# Altium footprint library JST PH Connectors.PcbLib: 59 footprints (part 3 of 4)
Each footprint in its own frame and in the unit in brackets; x right, y up, seen from the top. Pads: shape width x height; smd on the part's side, far side on the other; paste and mask are expansions set on the pad; w line width, h text height; cw(c..) or ccw(c..) is an arc to the next point about the centre after c.
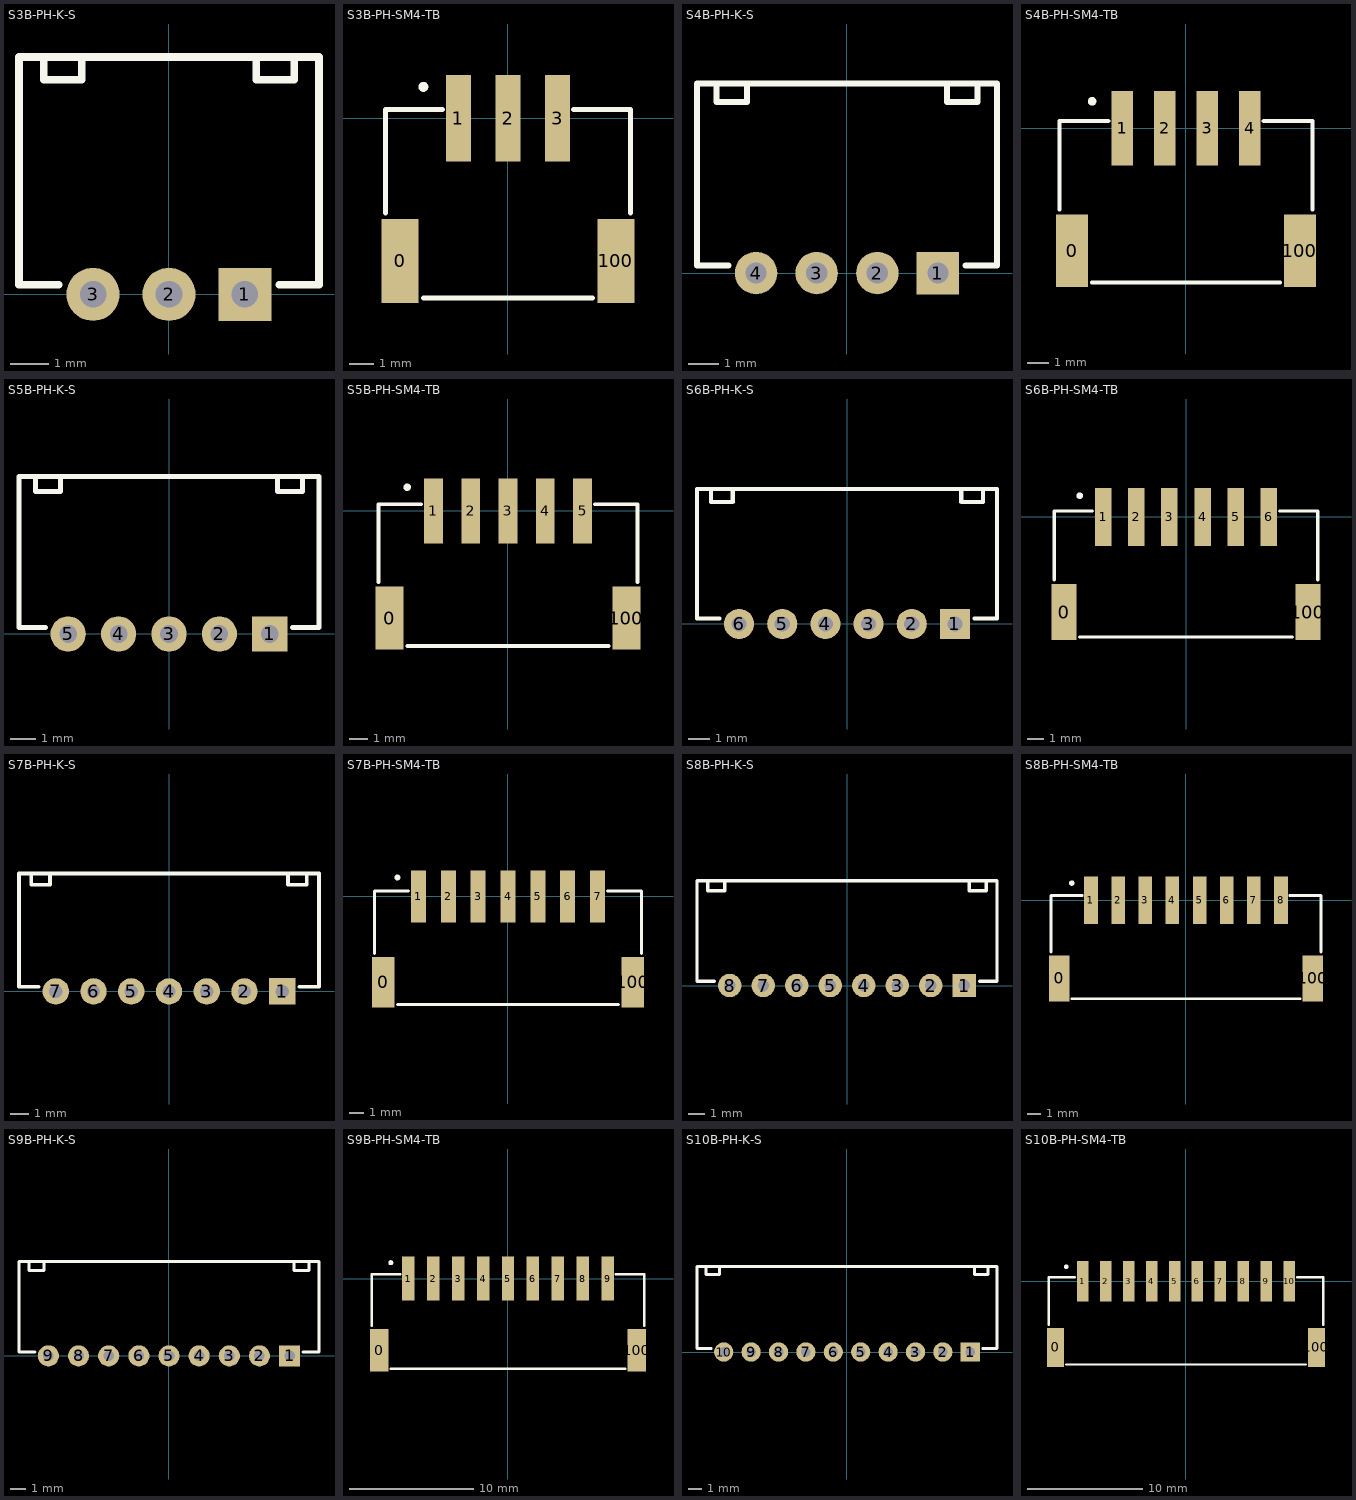
[diagram p2: the footprints below, top view; thin cyan lines are the x and y axes]

## S3B-PH-K-S [mm]
pads (3):
  rect 1.4x1.4 hole 0.7: 1(2,0)
  round 1.4 hole 0.7: 2(0,0) 3(-2,0)
Top Overlay:
  lines w0.2: -3.3,6.25 -3.3,5.65 -2.3,5.65 -2.3,6.25 ; -2.905,0.25 -3.95,0.25 -3.95,6.25 3.95,6.25 3.95,0.25 2.905,0.25 ; 2.3,6.25 2.3,5.65 3.3,5.65 3.3,6.25
3D body "S3B-PH-K-S.STEP": height 4.81, standoff -3.39, extent -3.95,-1.35 3.95,6.25

## S3B-PH-SM4-TB [mm]
height 5.5
pads (5):
  rect 1.5x3.4 smd: 0(-4.35,-5.75) 100(4.35,-5.75)
  rect 1x3.5 smd: 1(-2,0) 2(0,0) 3(2,0)
Top Overlay:
  circle w0.2: c-3.413,1.27 r0.1
  lines w0.2: -4.95,-3.81 -4.95,0.35 -2.651,0.35 ; -3.413,-7.25 3.413,-7.25 ; 2.651,0.35 4.95,0.35 4.95,-3.81
3D body "S3B-PH-SM4-TB.STEP": height 5.61, standoff 0.01, extent -4.95,-7.25 4.95,1.35

## S4B-PH-K-S [mm]
pads (4):
  rect 1.4x1.4 hole 0.7: 1(3,0)
  round 1.4 hole 0.7: 2(1,0) 3(-1,0) 4(-3,0)
Top Overlay:
  lines w0.2: -4.3,6.25 -4.3,5.65 -3.3,5.65 -3.3,6.25 ; -3.905,0.25 -4.95,0.25 -4.95,6.25 4.95,6.25 4.95,0.25 3.905,0.25 ; 3.3,6.25 3.3,5.65 4.3,5.65 4.3,6.25
3D body "S4B-PH-K-S.STEP": height 4.81, standoff -3.39, extent -4.95,-1.35 4.95,6.25

## S4B-PH-SM4-TB [mm]
height 5.5
pads (6):
  rect 1.5x3.4 smd: 0(-5.35,-5.75) 100(5.35,-5.75)
  rect 1x3.5 smd: 1(-3,0) 2(-1,0) 3(1,0) 4(3,0)
Top Overlay:
  circle w0.2: c-4.413,1.27 r0.1
  lines w0.2: -5.95,-3.81 -5.95,0.35 -3.651,0.35 ; -4.413,-7.25 4.413,-7.25 ; 3.651,0.35 5.95,0.35 5.95,-3.81
3D body "S4B-PH-SM4-TB.STEP": height 5.61, standoff 0.01, extent -5.95,-7.25 5.95,1.35

## S5B-PH-K-S [mm]
pads (5):
  rect 1.4x1.4 hole 0.7: 1(4,0)
  round 1.4 hole 0.7: 2(2,0) 3(0,0) 4(-2,0) 5(-4,0)
Top Overlay:
  lines w0.2: -5.3,6.25 -5.3,5.65 -4.3,5.65 -4.3,6.25 ; -4.905,0.25 -5.95,0.25 -5.95,6.25 5.95,6.25 5.95,0.25 4.905,0.25 ; 4.3,6.25 4.3,5.65 5.3,5.65 5.3,6.25
3D body "S5B-PH-K-S.STEP": height 4.81, standoff -3.39, extent -5.95,-1.35 5.95,6.25

## S5B-PH-SM4-TB [mm]
height 5.5
pads (7):
  rect 1.5x3.4 smd: 0(-6.35,-5.75) 100(6.35,-5.75)
  rect 1x3.5 smd: 1(-4,0) 2(-2,0) 3(0,0) 4(2,0) 5(4,0)
Top Overlay:
  circle w0.2: c-5.413,1.27 r0.1
  lines w0.2: -6.95,-3.81 -6.95,0.35 -4.651,0.35 ; -5.413,-7.25 5.413,-7.25 ; 4.651,0.35 6.95,0.35 6.95,-3.81
3D body "S5B-PH-SM4-TB.STEP": height 5.61, standoff 0.01, extent -6.95,-7.25 6.95,1.35

## S6B-PH-K-S [mm]
pads (6):
  rect 1.4x1.4 hole 0.7: 1(5,0)
  round 1.4 hole 0.7: 2(3,0) 3(1,0) 4(-1,0) 5(-3,0) 6(-5,0)
Top Overlay:
  lines w0.2: -6.3,6.25 -6.3,5.65 -5.3,5.65 -5.3,6.25 ; -5.905,0.25 -6.95,0.25 -6.95,6.25 6.95,6.25 6.95,0.25 5.905,0.25 ; 5.3,6.25 5.3,5.65 6.3,5.65 6.3,6.25
3D body "S6B-PH-K-S.STEP": height 4.81, standoff -3.39, extent -6.95,-1.35 6.95,6.25

## S6B-PH-SM4-TB [mm]
height 5.5
pads (8):
  rect 1.5x3.4 smd: 0(-7.35,-5.75) 100(7.35,-5.75)
  rect 1x3.5 smd: 1(-5,0) 2(-3,0) 3(-1,0) 4(1,0) 5(3,0) 6(5,0)
Top Overlay:
  circle w0.2: c-6.413,1.27 r0.1
  lines w0.2: -7.95,-3.81 -7.95,0.35 -5.651,0.35 ; -6.413,-7.25 6.413,-7.25 ; 5.651,0.35 7.95,0.35 7.95,-3.81
3D body "S6B-PH-SM4-TB.STEP": height 5.61, standoff 0.01, extent -7.95,-7.25 7.95,1.35

## S7B-PH-K-S [mm]
pads (7):
  rect 1.4x1.4 hole 0.7: 1(6,0)
  round 1.4 hole 0.7: 2(4,0) 3(2,0) 4(0,0) 5(-2,0) 6(-4,0) 7(-6,0)
Top Overlay:
  lines w0.2: -7.3,6.25 -7.3,5.65 -6.3,5.65 -6.3,6.25 ; -6.905,0.25 -7.95,0.25 -7.95,6.25 7.95,6.25 7.95,0.25 6.905,0.25 ; 6.3,6.25 6.3,5.65 7.3,5.65 7.3,6.25
3D body "S7B-PH-K-S.STEP": height 4.81, standoff -3.39, extent -7.95,-1.35 7.95,6.25

## S7B-PH-SM4-TB [mm]
height 5.5
pads (9):
  rect 1.5x3.4 smd: 0(-8.35,-5.75) 100(8.35,-5.75)
  rect 1x3.5 smd: 1(-6,0) 2(-4,0) 3(-2,0) 4(0,0) 5(2,0) 6(4,0) 7(6,0)
Top Overlay:
  circle w0.2: c-7.413,1.27 r0.1
  lines w0.2: -8.95,-3.81 -8.95,0.35 -6.651,0.35 ; -7.413,-7.25 7.413,-7.25 ; 6.651,0.35 8.95,0.35 8.95,-3.81
3D body "S7B-PH-SM4-TB.STEP": height 5.61, standoff 0.01, extent -8.95,-7.25 8.95,1.35

## S8B-PH-K-S [mm]
pads (8):
  rect 1.4x1.4 hole 0.7: 1(7,0)
  round 1.4 hole 0.7: 2(5,0) 3(3,0) 4(1,0) 5(-1,0) 6(-3,0) 7(-5,0) 8(-7,0)
Top Overlay:
  lines w0.2: -8.3,6.25 -8.3,5.65 -7.3,5.65 -7.3,6.25 ; -7.905,0.25 -8.95,0.25 -8.95,6.25 8.95,6.25 8.95,0.25 7.905,0.25 ; 7.3,6.25 7.3,5.65 8.3,5.65 8.3,6.25
3D body "S8B-PH-K-S.STEP": height 4.81, standoff -3.39, extent -8.95,-1.35 8.95,6.25

## S8B-PH-SM4-TB [mm]
height 5.5
pads (10):
  rect 1.5x3.4 smd: 0(-9.35,-5.75) 100(9.35,-5.75)
  rect 1x3.5 smd: 1(-7,0) 2(-5,0) 3(-3,0) 4(-1,0) 5(1,0) 6(3,0) 7(5,0) 8(7,0)
Top Overlay:
  circle w0.2: c-8.413,1.27 r0.1
  lines w0.2: -9.95,-3.81 -9.95,0.35 -7.651,0.35 ; -8.413,-7.25 8.413,-7.25 ; 7.651,0.35 9.95,0.35 9.95,-3.81
3D body "S8B-PH-SM4-TB.STEP": height 5.61, standoff 0.01, extent -9.95,-7.25 9.95,1.35

## S9B-PH-K-S [mm]
pads (9):
  rect 1.4x1.4 hole 0.7: 1(8,0)
  round 1.4 hole 0.7: 2(6,0) 3(4,0) 4(2,0) 5(0,0) 6(-2,0) 7(-4,0) 8(-6,0) 9(-8,0)
Top Overlay:
  lines w0.2: -9.3,6.25 -9.3,5.65 -8.3,5.65 -8.3,6.25 ; -8.905,0.25 -9.95,0.25 -9.95,6.25 9.95,6.25 9.95,0.25 8.905,0.25 ; 8.3,6.25 8.3,5.65 9.3,5.65 9.3,6.25
3D body "S9B-PH-K-S.STEP": height 4.81, standoff -3.39, extent -9.95,-1.35 9.95,6.25

## S9B-PH-SM4-TB [mm]
height 5.5
pads (11):
  rect 1.5x3.4 smd: 0(-10.35,-5.75) 100(10.35,-5.75)
  rect 1x3.5 smd: 1(-8,0) 2(-6,0) 3(-4,0) 4(-2,0) 5(0,0) 6(2,0) 7(4,0) 8(6,0) 9(8,0)
Top Overlay:
  circle w0.2: c-9.413,1.27 r0.1
  lines w0.2: -10.95,-3.81 -10.95,0.35 -8.651,0.35 ; -9.413,-7.25 9.413,-7.25 ; 8.651,0.35 10.95,0.35 10.95,-3.81
3D body "S9B-PH-SM4-TB.STEP": height 5.61, standoff 0.01, extent -10.95,-7.25 10.95,1.35

## S10B-PH-K-S [mm]
pads (10):
  rect 1.4x1.4 hole 0.7: 1(9,0)
  round 1.4 hole 0.7: 2(7,0) 3(5,0) 4(3,0) 5(1,0) 6(-1,0) 7(-3,0) 8(-5,0) 9(-7,0) 10(-9,0)
Top Overlay:
  lines w0.2: -10.3,6.25 -10.3,5.65 -9.3,5.65 -9.3,6.25 ; -9.905,0.25 -10.95,0.25 -10.95,6.25 10.95,6.25 10.95,0.25 9.905,0.25 ; 9.3,6.25 9.3,5.65 10.3,5.65 10.3,6.25
3D body "S10B-PH-K-S.STEP": height 4.81, standoff -3.39, extent -10.95,-1.35 10.95,6.25

## S10B-PH-SM4-TB [mm]
height 5.5
pads (12):
  rect 1.5x3.4 smd: 0(-11.35,-5.75) 100(11.35,-5.75)
  rect 1x3.5 smd: 1(-9,0) 2(-7,0) 3(-5,0) 4(-3,0) 5(-1,0) 6(1,0) 7(3,0) 8(5,0) 9(7,0) 10(9,0)
Top Overlay:
  circle w0.2: c-10.413,1.27 r0.1
  lines w0.2: -11.95,-3.81 -11.95,0.35 -9.651,0.35 ; -10.413,-7.25 10.413,-7.25 ; 9.651,0.35 11.95,0.35 11.95,-3.81
3D body "S10B-PH-SM4-TB.STEP": height 5.61, standoff 0.01, extent -11.95,-7.25 11.95,1.35